# EAGLE library part ATMEGA*U2 (library ic-ATMEL)
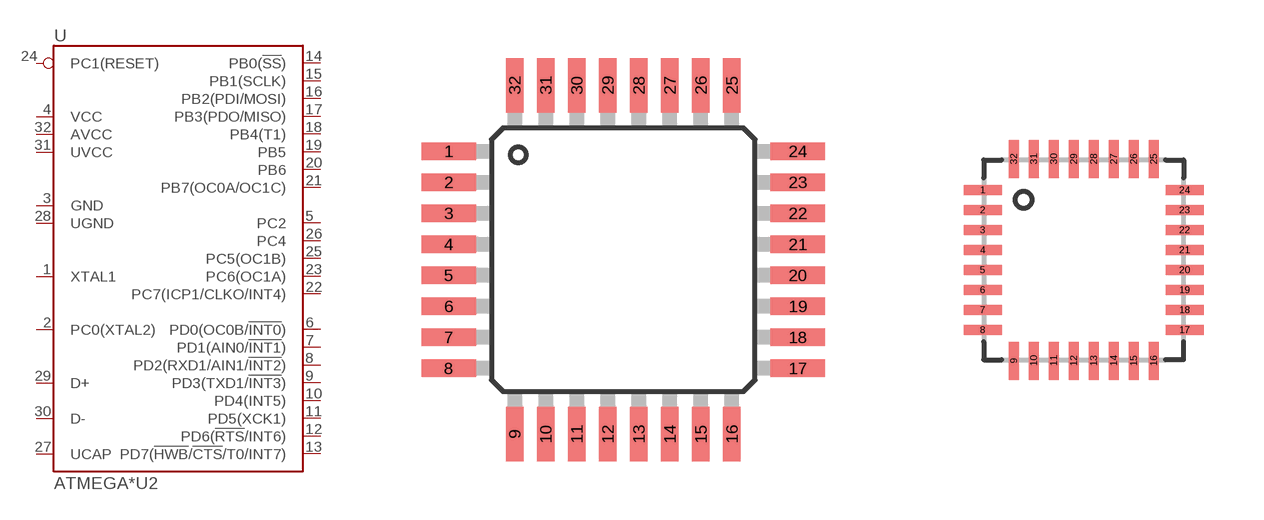
[diagram p1: symbol with the pads of QFP32-0.8; footprints QFP32-0.8, QFN32-0.5-NOPAD]

Designator prefix U

## ATMEGA16U2-AU, ATMEGA32U2-AU, ATMEGA8U2-AU  [QFP32-0.8]
1  XTAL1
2  PC0(XTAL2)
3  GND
4  VCC
5  PC2
6  PD0(OC0B/!INT0!)
7  PD1(AIN0/!INT1!)
8  PD2(RXD1/AIN1/!INT2!)
9  PD3(TXD1/!INT3!)
10  PD4(INT5)
11  PD5(XCK1)
12  PD6(!RTS!/INT6)
13  PD7(!HWB!/!CTS!/T0/INT7)
14  PB0(!SS!)
15  PB1(SCLK)
16  PB2(PDI/MOSI)
17  PB3(PDO/MISO)
18  PB4(T1)
19  PB5
20  PB6
21  PB7(OC0A/OC1C)
22  PC7(ICP1/CLKO/INT4)
23  PC6(OC1A)
24  PC1(RESET)
25  PC5(OC1B)
26  PC4
27  UCAP
28  UGND
29  D+
30  D-
31  UVCC
32  AVCC

## ATMEGA16U2-MU, ATMEGA32U2-MU, ATMEGA8U2-MU  [QFN32-0.5-NOPAD]
Pads as for QFP32-0.8

## Footprint QFP32-0.8 (pad centres in mm)
smd 1.4 x 0.45: 1 -4.5,2.8; 2 -4.5,2; 3 -4.5,1.2; 4 -4.5,0.4; 5 -4.5,-0.4; 6 -4.5,-1.2; 7 -4.5,-2; 8 -4.5,-2.8; 17 4.5,-2.8; 18 4.5,-2; 19 4.5,-1.2; 20 4.5,-0.4; 21 4.5,0.4; 22 4.5,1.2; 23 4.5,2; 24 4.5,2.8
smd 0.45 x 1.4: 9 -2.8,-4.5; 10 -2,-4.5; 11 -1.2,-4.5; 12 -0.4,-4.5; 13 0.4,-4.5; 14 1.2,-4.5; 15 2,-4.5; 16 2.8,-4.5; 25 2.8,4.5; 26 2,4.5; 27 1.2,4.5; 28 0.4,4.5; 29 -0.4,4.5; 30 -1.2,4.5; 31 -2,4.5; 32 -2.8,4.5

## Footprint QFN32-0.5-NOPAD (pad centres in mm)
smd 0.95 x 0.25: 1 -2.525,1.75; 2 -2.525,1.25; 3 -2.525,0.75; 4 -2.525,0.25; 5 -2.525,-0.25; 6 -2.525,-0.75; 7 -2.525,-1.25; 8 -2.525,-1.75; 17 2.525,-1.75; 18 2.525,-1.25; 19 2.525,-0.75; 20 2.525,-0.25; 21 2.525,0.25; 22 2.525,0.75; 23 2.525,1.25; 24 2.525,1.75
smd 0.25 x 0.95: 9 -1.75,-2.525; 10 -1.25,-2.525; 11 -0.75,-2.525; 12 -0.25,-2.525; 13 0.25,-2.525; 14 0.75,-2.525; 15 1.25,-2.525; 16 1.75,-2.525; 25 1.75,2.525; 26 1.25,2.525; 27 0.75,2.525; 28 0.25,2.525; 29 -0.25,2.525; 30 -0.75,2.525; 31 -1.25,2.525; 32 -1.75,2.525